# EAGLE library part US6K4TR (library US6K4TR)
MOSFET Med Pwr, Sw MOSFET N Chan, 20V, 1.5A Source: Datasheet <http://www.rohm.com/web/global/datasheet/US6K4/us6k4>
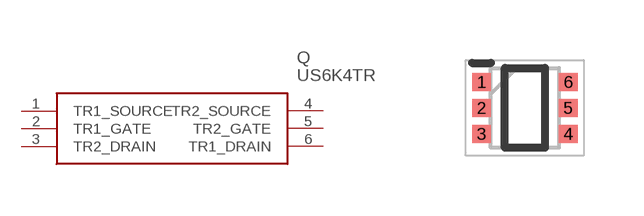
[diagram p0: symbol with the pads of SOTFL65P210X85-6N; footprint SOTFL65P210X85-6N]

Designator prefix Q

## US6K4TR (Description: MOSFET Med Pwr, Sw MOSFET N Chan, 20V, 1.5A; Height: 0.85mm; Manufacturer_Name: ROHM Semiconductor; Manufacturer_Part_Number: US6K4TR; Mouser_Part_Number: 755-US6K4TR; Mouser_Price-Stock: https://www.mouser.com/Search/Refine.aspx?Keyword=755-US6K4TR; RS_Part_Number: 1332950P; RS_Price-Stock: http://uk.rs-online.com/web/p/products/1332950P)  [SOTFL65P210X85-6N]
1  TR1_SOURCE
2  TR1_GATE
3  TR2_DRAIN
4  TR2_SOURCE
5  TR2_GATE
6  TR1_DRAIN

## Footprint SOTFL65P210X85-6N (pad centres in mm)
TUMT6
smd 0.47 x 0.45: 1 -1.085,0.65; 2 -1.085,0; 3 -1.085,-0.65; 4 1.085,-0.65; 5 1.085,0; 6 1.085,0.65